# Altium schematic symbol library SCH - CONNECTORS - MODULAR JACK WITH MAGNETICS SHIELD LEDS.SCHLIB: 2 symbols
Pins are listed as number, name and electrical type; pins without a type are passive.

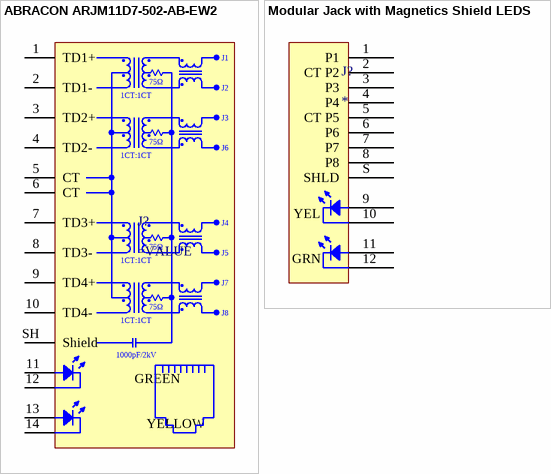
[diagram p0: symbols ABRACON ARJM11D7-502-AB-EW2 to Modular Jack with Magnetics Shield LEDS]

## ABRACON ARJM11D7-502-AB-EW2
designator J?
pins: 1 TD1+, 2 TD1-, 3 TD2+, 4 TD2-, 5 CT, 6 CT, 7 TD3+, 8 TD3-, 9 TD4+, 10 TD4-, 11 P11, 12 P12, 13 P13, 14 P14, SH Shield
text: J1; 75Ω; J2; 1CT:1CT; J3; J6; J4; J5; J7; J8; 1000pF/2kV; GREEN; YELLOW

## Modular Jack with Magnetics Shield LEDS
designator J?
pins: 1 P1, 2 CT P2, 3 P3, 4 P4, 5 CT P5, 6 P6, 7 P7, 8 P8, 9 P9, 10 P10, 11 P11, 12 P12, S SHLD
text: YEL; GRN